# Altium footprint library PcbLib1.PcbLib: 3 footprints
Each footprint in its own frame and in the unit in brackets; x right, y up, seen from the top. Pads: shape width x height; smd on the part's side, far side on the other; paste and mask are expansions set on the pad; w line width, h text height; cw(c..) or ccw(c..) is an arc to the next point about the centre after c.
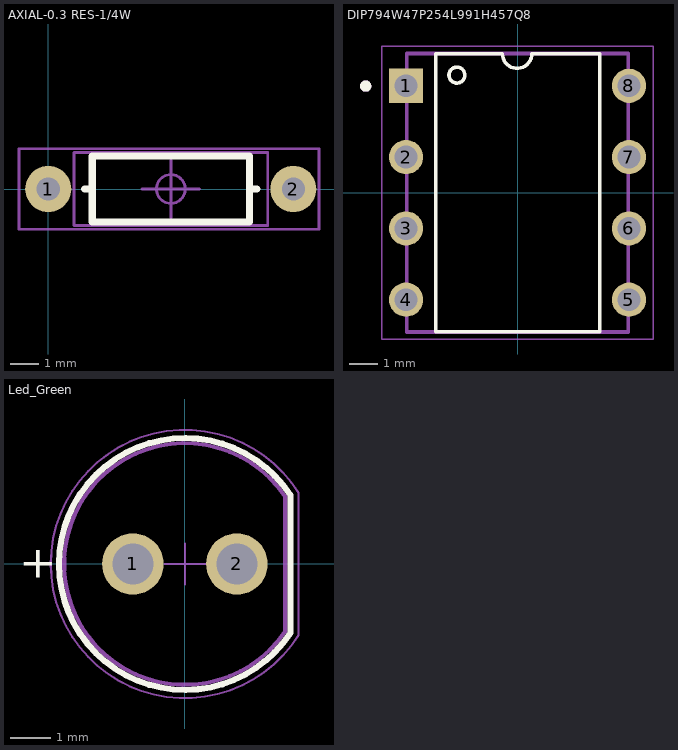
[diagram p0: the footprints below, top view; thin cyan lines are the x and y axes]

## AXIAL-0.3 RES-1/4W [mm] "AXIAL"
height 2.8
pads (2):
  round 1.6 hole 0.8: 1(0,0) 2(8.509,0)
Top Overlay:
  lines w0.254: 1.27,0 1.524,0 ; 6.985,0 7.239,0 ; 1.524,-1.143 1.524,1.143 6.985,1.143 6.985,-1.143 1.524,-1.143
Top 3D Body:
  lines w0.1: 0.889,-1.27 7.62,-1.27 7.62,1.27 0.889,1.27 0.889,-1.27
Top Courtyard:
  circle w0.1: c4.255,0 r0.5
  lines w0.1: 3.254,0 5.255,0 ; 4.255,-1 4.255,1 ; -1.016,-1.397 -1.016,1.397 9.398,1.397 9.398,-1.397 -1.016,-1.397

## DIP794W47P254L991H457Q8 [mm]
pads (8):
  rect 1.22x1.22 hole 0.81: 1(-3.97,3.81)
  round 1.22 hole 0.81: 2(-3.97,1.27) 3(-3.97,-1.27) 4(-3.97,-3.81) 5(3.97,-3.81) 6(3.97,-1.27) 7(3.97,1.27) 8(3.97,3.81)
Top Overlay:
  circle w0.127: c-2.159,4.191 r0.284
  circle w0.2: c-5.41,3.8 r0.1
  lines w0.127: -2.921,-4.953 2.921,-4.953 2.921,4.953 0.508,4.953 cw(c-0.016,4.953) -0.539,4.953 -2.921,4.953 -2.921,-4.953
Top 3D Body:
  circle w0.2: c-5.41,3.8 r0.1
  lines w0.127: -3.94,-4.96 3.94,-4.96 3.94,4.96 -3.94,4.96 -3.94,-4.96
Top Courtyard:
  lines w0.05: -4.83,-5.21 4.83,-5.21 4.83,5.21 -4.83,5.21 -4.83,-5.21
3D body "MAX485CPA.STEP": height 4.67, standoff -3.71, extent -5.08,-4.687 5.08,4.687

## Led_Green [mm] "THT Mono-color Round Color LED, 2-leads"
height 8.7
pads (2):
  round 1.5 hole 1: 1(-1.27,0) 2(1.27,0)
Top Overlay:
  lines w0.15: 2.575,-1.681 cw(c0,0) 2.575,1.681 2.575,-1.681
  text "+" at -4.05,-0.33 h0.8
Top Designator:
  text ".Designator" at -7.498,-0.5 h1.5
Top Component Outline:
  lines w0.1: 2.449,-1.644 cw(c0,0) 2.449,1.645 ; 2.45,-1.645 2.45,1.645
Top Courtyard:
  lines w0.05: -0.5,0 0.5,0 ; 0,-0.5 0,0.5 ; 2.775,-1.74 cw(c0,0) 2.775,1.74 2.775,-1.74
3D body "STEP-WL-TMRC-5mm-wos-rev1.stp": height 9.2, standoff -25.9, extent -2.95,-2.949 2.45,2.95